# Altium schematic symbol library RT_SUPER_C1.SchLib: 29 symbols
Pins are listed as number, name and electrical type; pins without a type are passive.

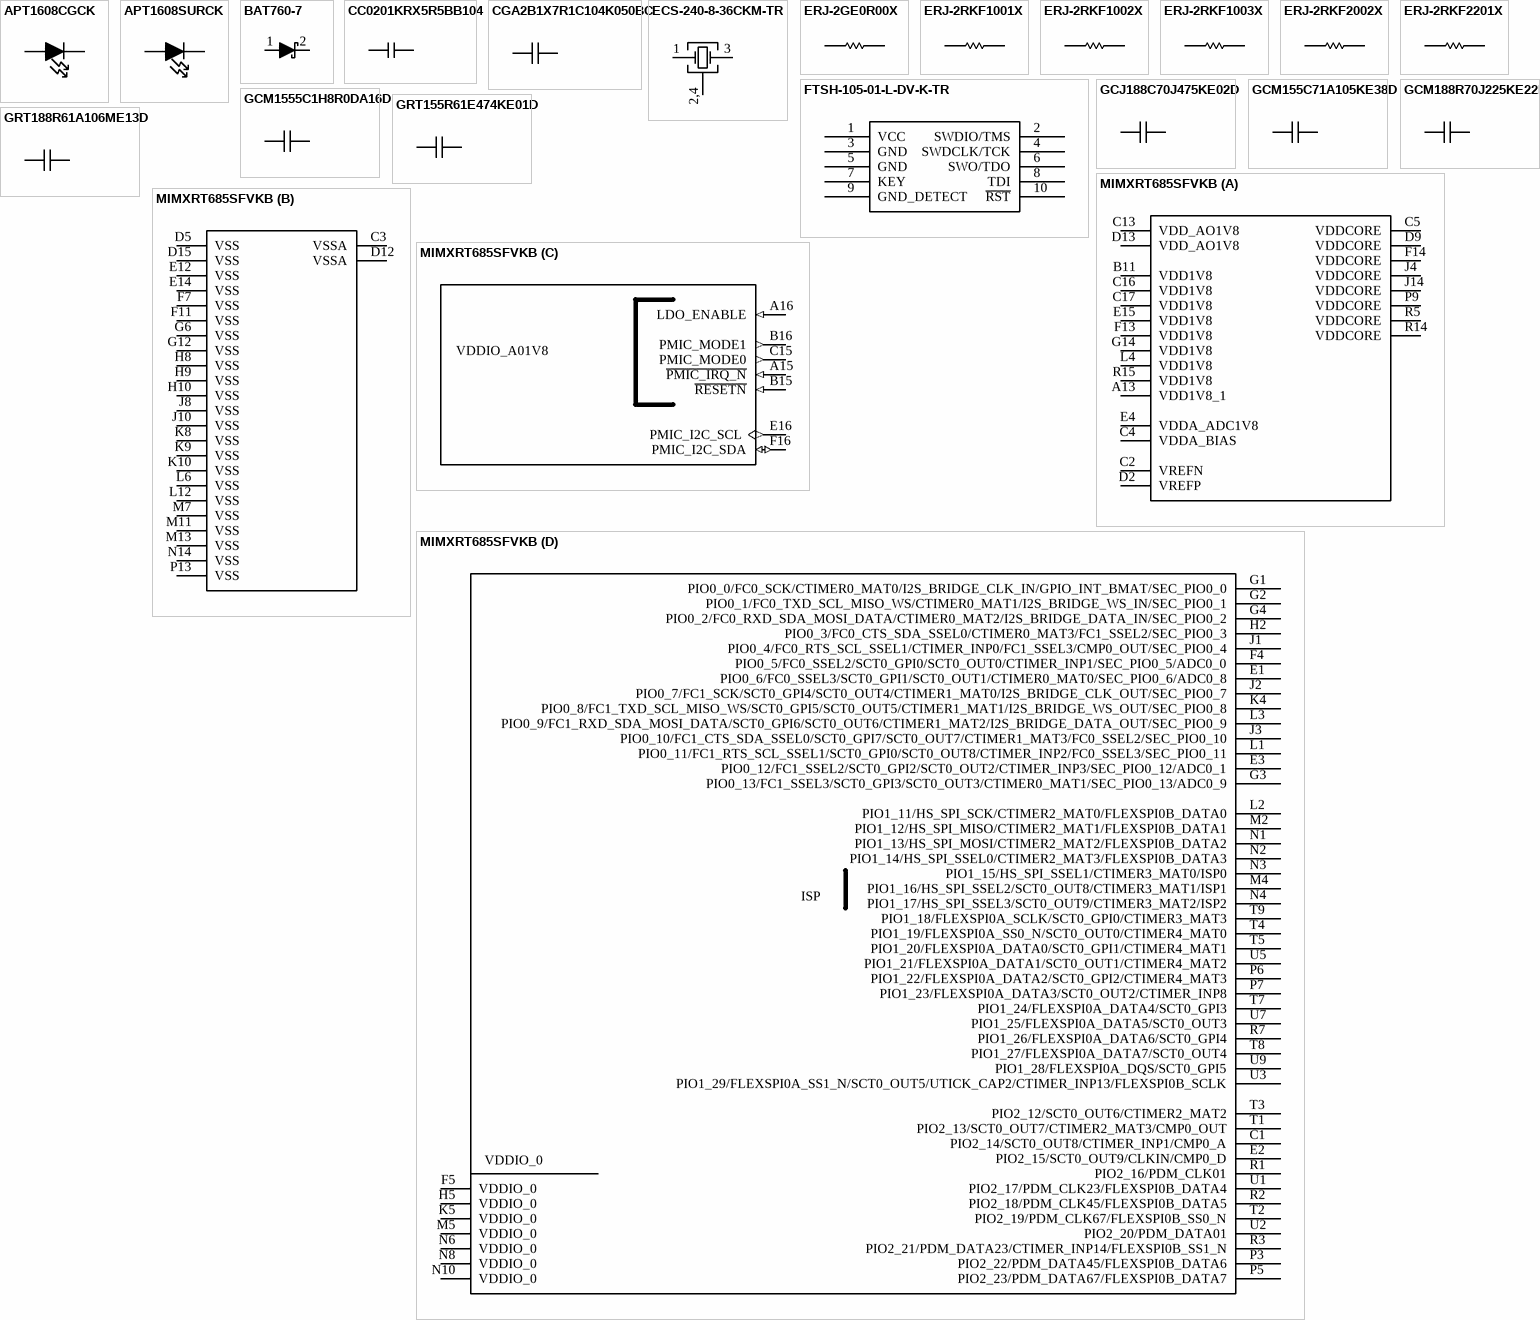
[diagram p0: symbols APT1608CGCK to MIMXRT685SFVKB]

## APT1608CGCK
designator ?
LED 1.6X0.8MM 570NM GRN CLR SMD

## APT1608SURCK
designator ?
LED 1.6X0.8MM 630NM RED CLR SMD

## BAT760-7
designator ?
DIODE SCHOTTKY 30V 1A SOD323

## CC0201KRX5R5BB104
designator ?
Cap Ceramic 0.1uF 6.3VDC X5R 10% SMD 0201 Paper T/R

## CGA2B1X7R1C104K050BC
designator ?
CAP CER 0.1UF 16V X7R 0402

## ECS-240-8-36CKM-TR
designator ?
8pF SMD2520-4P Crystals ROHS

## ERJ-2GE0R00X
designator ?
RES 0.0 OHM 1/10W JUMP 0402 SMD

## ERJ-2RKF1001X
designator ?
RES 1K OHM 1/10W 1% 0402 SMD

## ERJ-2RKF1002X
designator ?
RES 10K OHM 1/10W 1% 0402 SMD

## ERJ-2RKF1003X
designator ?
RES 100K OHM 1/10W 1% 0402 SMD

## ERJ-2RKF2002X
designator ?
RES 20K OHM 1/10W 1% 0402 SMD

## ERJ-2RKF2201X
designator ?
RES 2.2K OHM 1/10W 1% 0402 SMD

## FTSH-105-01-L-DV-K-TR
designator ?
10P 1.27mm 3.4A 2 Surface Mount,Vertical -55℃~+125℃ SMD,P=1.27mm Headers, Male Pins ROHS

## GCJ188C70J475KE02D
designator ?
CAP CER 4.7UF 6.3V X7S 0603

## GCM155C71A105KE38D
designator ?
CAP CER 1UF 10V X7S 0402

## GCM188R70J225KE22D
designator ?
CAP CER 2.2UF 6.3V X7R 0603

## GCM1555C1H8R0DA16D
designator ?
CAP CER 8PF 50V C0G/NP0 0402

## GRT155R61E474KE01D
designator ?
CAP CER 0.47UF 25V X5R 0402

## GRT188R61A106ME13D
designator ?
CAP CER 10UF 10V X5R 0603

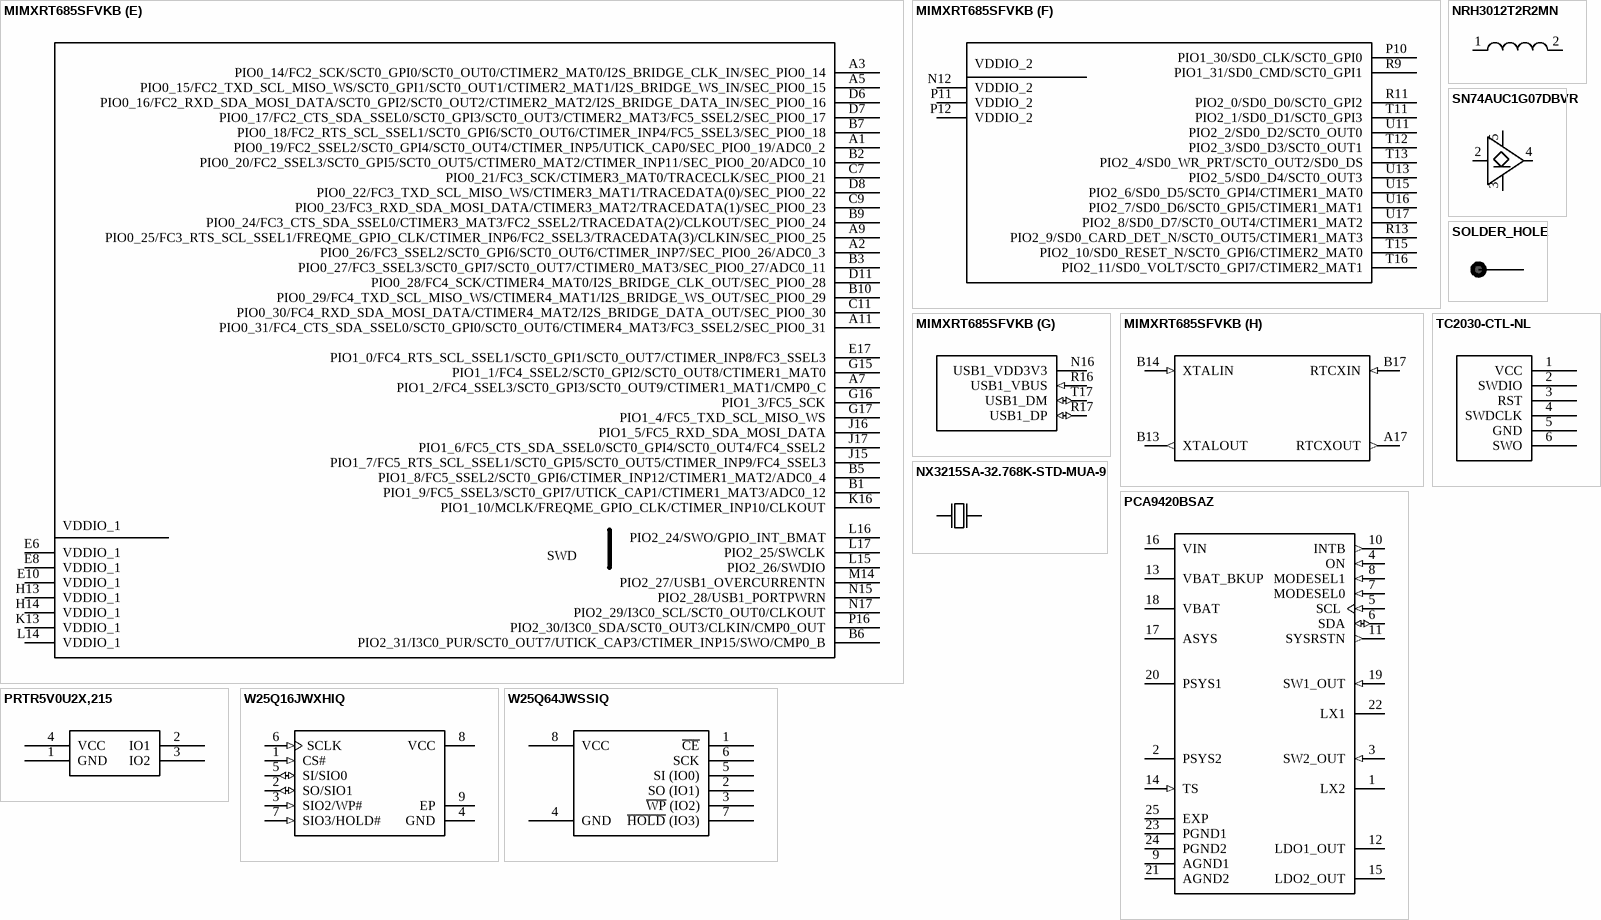
[diagram p1: symbols MIMXRT685SFVKB to W25Q64JWSSIQ]

## MIMXRT685SFVKB
designator ?
SOC i.MX ARM Cortex M33 176-Pin VFBGA Tray
part C text: VDDIO_A01V8
part D text: ISP; VDDIO_0
part E text: VDDIO_1; SWD
part F text: VDDIO_2

## NRH3012T2R2MN
designator ?
Inductor 2.2µH 1.5A

## NX3215SA-32.768K-STD-MUA-9
designator ?
CRYSTAL 32.768KHZ 9PF SMD

## PCA9420BSAZ
designator ?
Power Management IC for Low-Power Microcontroller Applications 24-Pin HVQFN

## PRTR5V0U2X,215
designator ?
TVS DIODE 5.5VWM SOT143B
1 alternate drawing of the same symbol

## SN74AUC1G07DBVR
designator ?
IC BUFF NON-INVERT 2.7 V SOT23-5

## SOLDER_HOLE
designator ?  (no BOM)

## TC2030-CTL-NL
designator ?  (no BOM)
Tag Connect Pads - No latching Clips - ARM

## W25Q16JWXHIQ
designator ?
16Mbit 1.65V~1.95V 133MHz SPI XSON-8-EP(2x3) Memory (ICs) ROHS

## W25Q64JWSSIQ
designator ?
64Mbit 1V8 SOIC-8-208mil NOR FLASH ROHS